# EAGLE library part AT90*2313 (library atmel)
MICROCONTROLLER 2 Kbytes FLASH 128 bytes SRAM 128 bytes EEPROM UART
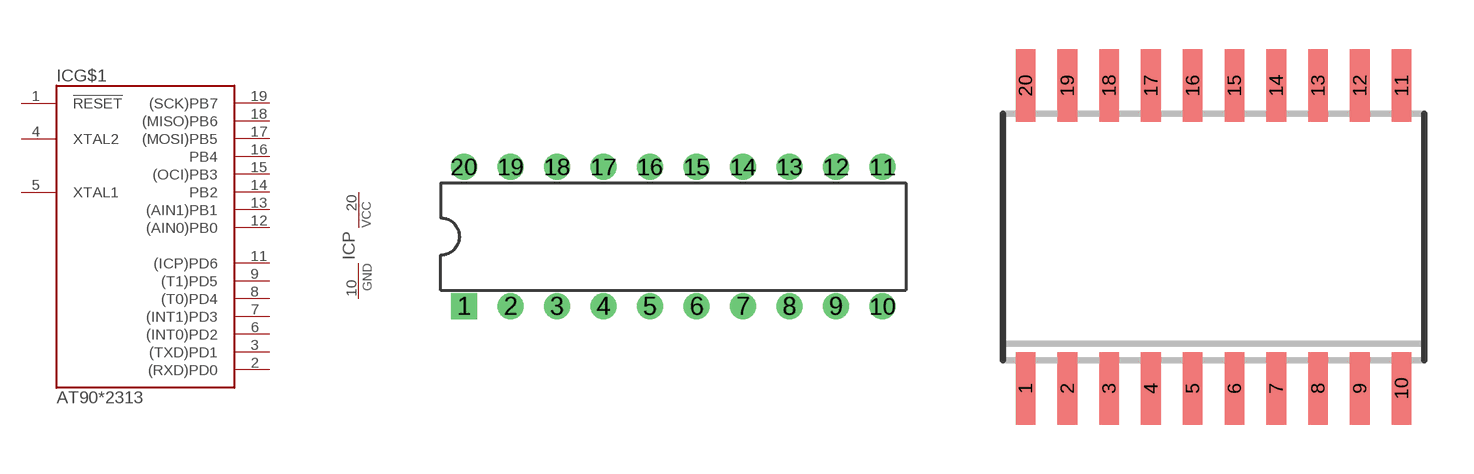
[diagram p17: symbol with the pads of DIL20; footprints DIL20, SO20W]

Designator prefix IC; gates G$1=15-I/O-2 P=PWR

## AT90S2313P  [DIL20]
1  G$1:!RESET
2  G$1:(RXD)PD0
3  G$1:(TXD)PD1
4  G$1:XTAL2
5  G$1:XTAL1
6  G$1:(INT0)PD2
7  G$1:(INT1)PD3
8  G$1:(T0)PD4
9  G$1:(T1)PD5
10  P:GND  pwr
11  G$1:(ICP)PD6
12  G$1:(AIN0)PB0
13  G$1:(AIN1)PB1
14  G$1:PB2
15  G$1:(OCI)PB3
16  G$1:PB4
17  G$1:(MOSI)PB5
18  G$1:(MISO)PB6
19  G$1:(SCK)PB7
20  P:VCC  pwr

## AT90S2313S  [SO20W]
Pads as for DIL20

## AT90S2313V  [QFN20_4X4_0.50]
1  G$1:(TXD)PD1
2  G$1:XTAL2
3  G$1:XTAL1
4  G$1:(INT0)PD2
5  G$1:(INT1)PD3
6  G$1:(T0)PD4
7  G$1:(T1)PD5
8  P:GND  pwr
9  G$1:(ICP)PD6
10  G$1:(AIN0)PB0
11  G$1:(AIN1)PB1
12  G$1:PB2
13  G$1:(OCI)PB3
14  G$1:PB4
15  G$1:(MOSI)PB5
16  G$1:(MISO)PB6
17  G$1:(SCK)PB7
18  P:VCC  pwr
19  G$1:!RESET
20  G$1:(RXD)PD0
EXP  P:GND  pwr

## Footprint DIL20 (pad centres in mm)
DIL package, pin row distance 300mil
drill 0.8 pad 1.4 square: 1 -11.43,-3.81
drill 0.8 pad 1.4: 2 -8.89,-3.81; 3 -6.35,-3.81; 4 -3.81,-3.81; 5 -1.27,-3.81; 6 1.27,-3.81; 7 3.81,-3.81; 8 6.35,-3.81; 9 8.89,-3.81; 10 11.43,-3.81; 11 11.43,3.81; 12 8.89,3.81; 13 6.35,3.81; 14 3.81,3.81; 15 1.27,3.81; 16 -1.27,3.81; 17 -3.81,3.81; 18 -6.35,3.81; 19 -8.89,3.81; 20 -11.43,3.81

## Footprint SO20W (pad centres in mm)
Small Outline IC, 300mil body width, 50mil lead pitch package/pad dimensions according to IPC-SM-782, RLP No. 306A JEDEC: MS-013 AC IPC: SO20W other notations: SO-20W, SOIC20W, SOIC-20W
smd 0.6 x 2.2: 1 -5.715,-4.6; 2 -4.445,-4.6; 3 -3.175,-4.6; 4 -1.905,-4.6; 5 -0.635,-4.6; 6 0.635,-4.6; 7 1.905,-4.6; 8 3.175,-4.6; 9 4.445,-4.6; 10 5.715,-4.6; 11 5.715,4.6; 12 4.445,4.6; 13 3.175,4.6; 14 1.905,4.6; 15 0.635,4.6; 16 -0.635,4.6; 17 -1.905,4.6; 18 -3.175,4.6; 19 -4.445,4.6; 20 -5.715,4.6

## Footprint QFN20_4X4_0.50 (pad centres in mm)
20-Lead Plastic QFN, 4mm x 4mm body, 0.5mm lead pitch, exposed pad 0.45 mm lead length JEDEC: MO-220 ATMEL Code: 20M1, ZFV other notations: MFL20
smd 0.9 x 0.3: 1 -2,1; 2 -2,0.5; 3 -2,0; 4 -2,-0.5; 5 -2,-1; 11 2,-1; 12 2,-0.5; 13 2,0; 14 2,0.5; 15 2,1
smd 0.3 x 0.9: 6 -1,-2; 7 -0.5,-2; 8 0,-2; 9 0.5,-2; 10 1,-2; 16 1,2; 17 0.5,2; 18 0,2; 19 -0.5,2; 20 -1,2
smd 2.4 x 2.4: EXP 0,0